# EAGLE library part STM32-64P-?* (library CougsInSpace-IC-µController)
STM 32b µController - 64 Pin STM32L476Rx <https://github.com/CougsInSpace/Resources/blob/master/SupplierDocuments/ST/STM32L476.pdf> STM32L496Rx <https://github.com/CougsInSpace/Resources/blob/master/SupplierDocuments/ST/STM32L496.pdf>
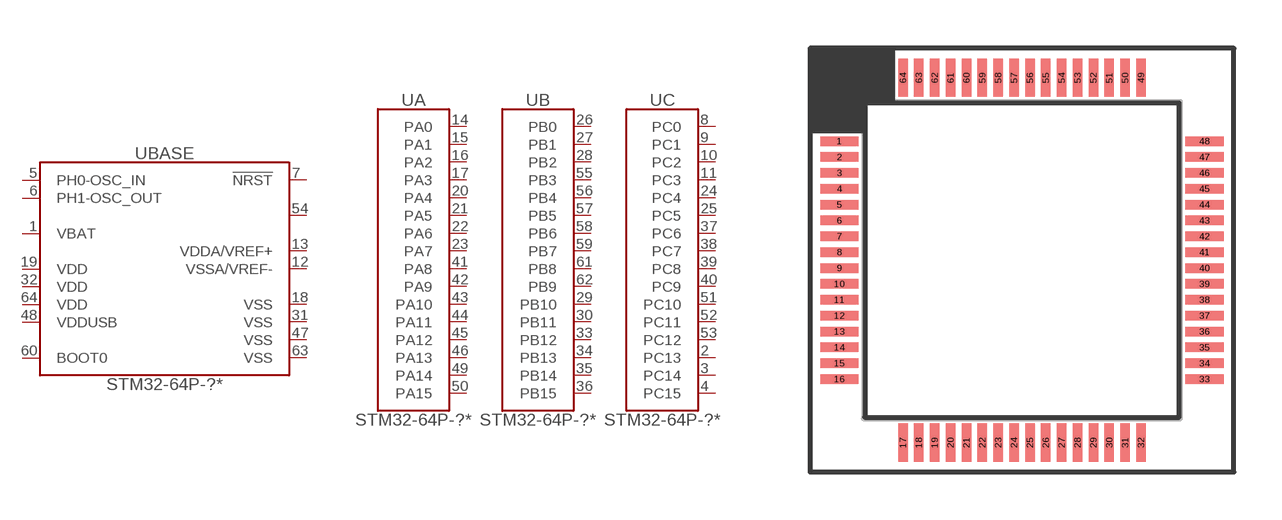
[diagram p0: symbol with the pads of QFP-64-1010; footprint QFP-64-1010]

Designator prefix U; gates BASE=STM32BASE-64 A=GPIO_A-16 B=GPIO_B-16 C=GPIO_C-16

## STM32-64P-L476RGT (EXTRAPIN: PD2; FLASH: 1MB; SKU: 61-0002; VALUE: STM32L476RGT)  [QFP-64-1010]
1  BASE:VBAT  pwr
2  C:PC13
3  C:PC14
4  C:PC15
5  BASE:PH0-OSC_IN
6  BASE:PH1-OSC_OUT
7  BASE:!NRST  in
8  C:PC0
9  C:PC1
10  C:PC2
11  C:PC3
12  BASE:VSSA/VREF-  pwr
13  BASE:VDDA/VREF+  pwr
14  A:PA0
15  A:PA1
16  A:PA2
17  A:PA3
18  BASE:VSS  pwr
19  BASE:VDD  pwr
20  A:PA4
21  A:PA5
22  A:PA6
23  A:PA7
24  C:PC4
25  C:PC5
26  B:PB0
27  B:PB1
28  B:PB2
29  B:PB10
30  B:PB11
31  BASE:VSS  pwr
32  BASE:VDD  pwr
33  B:PB12
34  B:PB13
35  B:PB14
36  B:PB15
37  C:PC6
38  C:PC7
39  C:PC8
40  C:PC9
41  A:PA8
42  A:PA9
43  A:PA10
44  A:PA11
45  A:PA12
46  A:PA13
47  BASE:VSS  pwr
48  BASE:VDDUSB  pwr
49  A:PA14
50  A:PA15
51  C:PC10
52  C:PC11
53  C:PC12
54  BASE:EXTRA_PIN
55  B:PB3
56  B:PB4
57  B:PB5
58  B:PB6
59  B:PB7
60  BASE:BOOT0  in
61  B:PB8
62  B:PB9
63  BASE:VSS  pwr
64  BASE:VDD  pwr

## STM32-64P-L496RGT (EXTRAPIN: PD2; FLASH: 1MB; SKU: 61-0004; VALUE: STM32L496RGT)  [QFP-64-1010]
Pads as for QFP-64-1010

## Footprint QFP-64-1010 (pad centres in mm)
Quad Flat Package (QFP) - 64 pins - 10 x 10 mm
smd 1.2 x 0.3: 1 -5.75,3.75; 2 -5.75,3.25; 3 -5.75,2.75; 4 -5.75,2.25; 5 -5.75,1.75; 6 -5.75,1.25; 7 -5.75,0.75; 8 -5.75,0.25; 9 -5.75,-0.25; 10 -5.75,-0.75; 11 -5.75,-1.25; 12 -5.75,-1.75; 13 -5.75,-2.25; 14 -5.75,-2.75; 15 -5.75,-3.25; 16 -5.75,-3.75; 33 5.75,-3.75; 34 5.75,-3.25; 35 5.75,-2.75; 36 5.75,-2.25; 37 5.75,-1.75; 38 5.75,-1.25; 39 5.75,-0.75; 40 5.75,-0.25; 41 5.75,0.25; 42 5.75,0.75; 43 5.75,1.25; 44 5.75,1.75; 45 5.75,2.25; 46 5.75,2.75; 47 5.75,3.25; 48 5.75,3.75
smd 0.3 x 1.2: 17 -3.75,-5.75; 18 -3.25,-5.75; 19 -2.75,-5.75; 20 -2.25,-5.75; 21 -1.75,-5.75; 22 -1.25,-5.75; 23 -0.75,-5.75; 24 -0.25,-5.75; 25 0.25,-5.75; 26 0.75,-5.75; 27 1.25,-5.75; 28 1.75,-5.75; 29 2.25,-5.75; 30 2.75,-5.75; 31 3.25,-5.75; 32 3.75,-5.75; 49 3.75,5.75; 50 3.25,5.75; 51 2.75,5.75; 52 2.25,5.75; 53 1.75,5.75; 54 1.25,5.75; 55 0.75,5.75; 56 0.25,5.75; 57 -0.25,5.75; 58 -0.75,5.75; 59 -1.25,5.75; 60 -1.75,5.75; 61 -2.25,5.75; 62 -2.75,5.75; 63 -3.25,5.75; 64 -3.75,5.75